# Altium integrated library speaker.IntLib: 1 symbol
Pins are listed as number, name and electrical type; pins without a type are passive.

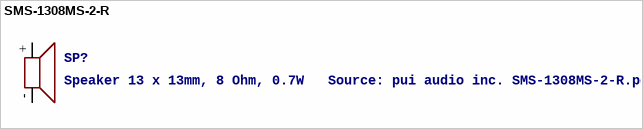
[diagram p0: symbol SMS-1308MS-2-R]

## SMS-1308MS-2-R
designator SP?, comment Speaker 13 x 13mm, 8 Ohm, 0.7W   Source: pui audio inc. SMS-1308MS-2-R.pdf
footprint SMS-1308MS-2-R
pins: + 1, - 2